# EAGLE library part ATTINY1616/3216 (library m_microcontroller)
ATtiny1616/3216 tinyAVR® 1-series Introduction The ATtiny1616/3216 are members of the tinyAVR® 1-series of microcontrollers, using the AVR® processor with hardware multiplier, running at up to 20 MHz, with 16/32 KB Flash, 2 KB of SRAM, and 256 bytes of EEPROM in a 20-pin package. The tinyAVR® 1-series uses the latest technologies with a flexible, low-power architecture including Event System and SleepWalking, accurate analog features, and Core Independent Peripherals. Capacitive touch interfaces with driven shield are supported with the integrated QTouch® peripheral touch controller. Features CPU AVR® CPU Running at up to 20 MHz Single-cycle I/O access Two-level interrupt controller Two-cycle hardware multiplier Memories 32/16 KB In-system self-programmable Flash memory 256 bytes EEPROM 2 KB SRAM Write/erase endurance: Flash 10,000 cycles EEPROM 100,000 cycles Data retention: 40 years at 55°C System Power-on Reset (POR) Brown-out Detector (BOD) Clock options: 16/20 MHz low-power internal RC oscillator 32.768 kHz Ultra Low-Power (ULP) internal RC oscillator 32.768 kHz external crystal oscillator External clock input Single-pin Unified Program and Debug Interface (UPDI) Three sleep modes: Idle with all peripherals running for immediate wake-up Standby Configurable operation of selected peripherals SleepWalking peripherals Power-Down with full data retention Peripherals One 16-bit Timer/Counter type A (TCA) with dedicated period register and three compare channels Two 16-bit Timer/Counter type B (TCB) with input capture One 12-bit Timer/Counter type D (TCD) optimized for control applications One 16-bit Real-Time Counter (RTC) running from an external crystal, external clock, or internal RC oscillator Watchdog Timer (WDT) with Window mode, with a separate on-chip oscillator One USART with fractional baud rate generator, auto-baud, and start-of-frame detection One master/slave Serial Peripheral Interface (SPI) One Two-Wire Interface (TWI) with dual address match Philips I2C compatible Standard mode (Sm, 100 kHz) Fast mode (Fm, 400 kHz) Fast mode plus (Fm+, 1 MHz) Three Analog Comparators (AC) with low propagation delay Two 10-bit 115 ksps Analog-to-Digital Converters (ADC) Three 8-bit Digital-to-Analog Converters (DAC) with one external channel Multiple voltage references (VREF): 0.55V 1.1V 1.5V 2.5V 4.3V Event System (EVSYS) for CPU independent and predictable inter-peripheral signaling Configurable Custom Logic (CCL) with two programmable look-up tables Automated CRC memory scan Peripheral Touch Controller (PTC) Capacitive touch buttons, sliders, wheels and 2D surfaces Wake-up on touch Driven shield for improved moisture and noise handling performance Up to 12 self capacitance channels Up to 36 mutual capacitance channels External interrupt on all general purpose pins I/O and Packages: 18 programmable I/O lines 20-pin VQFN 3x3 mm 20-pin SOIC300 Temperature Ranges: -40°C to 105°C -40°C to 125°C Speed Grades: 0-5 MHz @ 1.8V - 5.5V 0-10 MHz @ 2.7V - 5.5V 0-20 MHz @ 4.5V - 5.5V Octopart Search <https://octopart.com/search?q=attiny3216-*> Added 2019-08-30
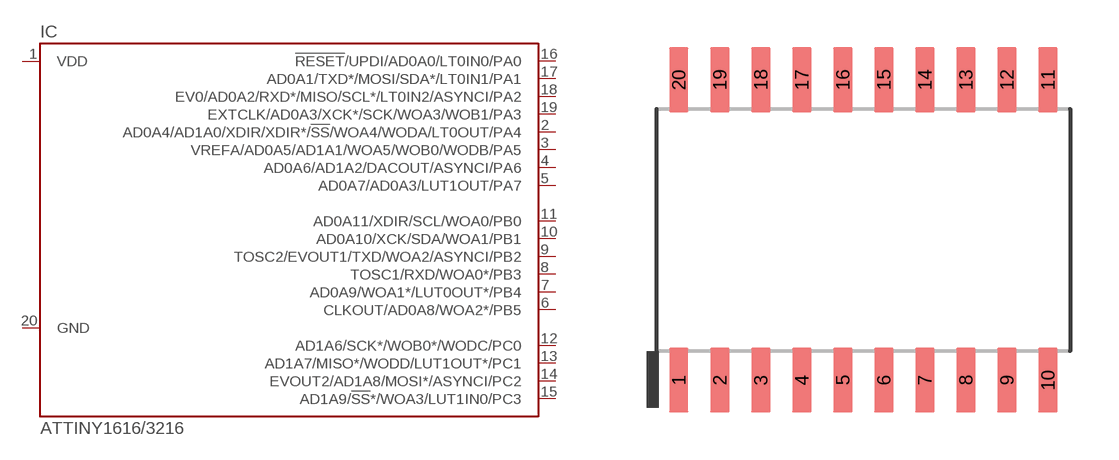
[diagram p2: symbol with the pads of SOIC300; footprint SOIC300]

Designator prefix IC

## ATTINY1616/3216-S* (MANUF: Microchip; PARTNUM: ATtiny3216-S*; VALUE: ATtiny3216)  [SOIC300]
1  VDD  pas
2  AD0A4/AD1A0/XDIR/XDIR*/!SS!/WOA4/WODA/LT0OUT/PA4  pas
3  VREFA/AD0A5/AD1A1/WOA5/WOB0/WODB/PA5  pas
4  AD0A6/AD1A2/DACOUT/ASYNCI/PA6  pas
5  AD0A7/AD0A3/LUT1OUT/PA7  pas
6  CLKOUT/AD0A8/WOA2*/PB5  pas
7  AD0A9/WOA1*/LUT0OUT*/PB4  pas
8  TOSC1/RXD/WOA0*/PB3  pas
9  TOSC2/EVOUT1/TXD/WOA2/ASYNCI/PB2  pas
10  AD0A10/XCK/SDA/WOA1/PB1  pas
11  AD0A11/XDIR/SCL/WOA0/PB0  pas
12  AD1A6/SCK*/WOB0*/WODC/PC0  pas
13  AD1A7/MISO*/WODD/LUT1OUT*/PC1  pas
14  EVOUT2/AD1A8/MOSI*/ASYNCI/PC2  pas
15  AD1A9/!SS!*/WOA3/LUT1IN0/PC3  pas
16  !RESET!/UPDI/AD0A0/LT0IN0/PA0  pas
17  AD0A1/TXD*/MOSI/SDA*/LT0IN1/PA1  pas
18  EV0/AD0A2/RXD*/MISO/SCL*/LT0IN2/ASYNCI/PA2  pas
19  EXTCLK/AD0A3/XCK*/SCK/WOA3/WOB1/PA3  pas
20  GND  pas

## Footprint SOIC300 (pad centres in mm)
20 Pin SOIC300 20-Lead Small Outline Integrated Circuit (MDB) - 7.5 mm (0.300 In.) Body Atmel Legacy Global Package Code SRJ Source: Microchip Technology Drawing C04-21323-MDB Rev A Added 2019-08-29
smd 0.6 x 2: 1 -5.715,-4.65; 2 -4.445,-4.65; 3 -3.175,-4.65; 4 -1.905,-4.65; 5 -0.635,-4.65; 6 0.635,-4.65; 7 1.905,-4.65; 8 3.175,-4.65; 9 4.445,-4.65; 10 5.715,-4.65; 11 5.715,4.65; 12 4.445,4.65; 13 3.175,4.65; 14 1.905,4.65; 15 0.635,4.65; 16 -0.635,4.65; 17 -1.905,4.65; 18 -3.175,4.65; 19 -4.445,4.65; 20 -5.715,4.65